# EAGLE library part LSF0108PWR (library circuit_tree)
IC
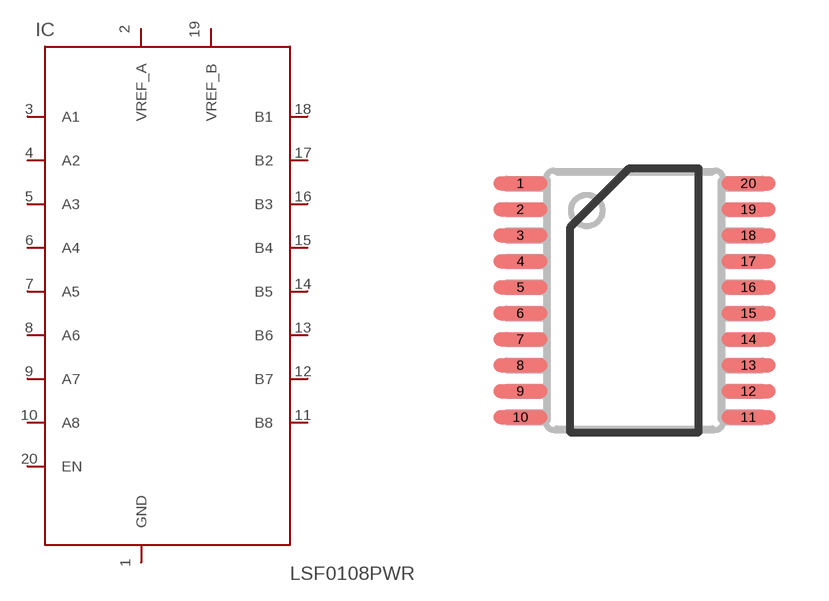
[diagram p6: symbol with the pads of PW0020A; footprint PW0020A]

Designator prefix IC

## LSF0108PWR  [PW0020A]
1  GND  pas
2  VREF_A  pas
3  A1  pas
4  A2  pas
5  A3  pas
6  A4  pas
7  A5  pas
8  A6  pas
9  A7  pas
10  A8  pas
11  B8  pas
12  B7  pas
13  B6  pas
14  B5  pas
15  B4  pas
16  B3  pas
17  B2  pas
18  B1  pas
19  VREF_B  pas
20  EN  pas

## Footprint PW0020A (pad centres in mm)
smd 1.35 x 0.35: 1 -2.85,2.925; 2 -2.85,2.275; 3 -2.85,1.625; 4 -2.85,0.975; 5 -2.85,0.325; 6 -2.85,-0.325; 7 -2.85,-0.975; 8 -2.85,-1.625; 9 -2.85,-2.275; 10 -2.85,-2.925; 11 2.85,-2.925; 12 2.85,-2.275; 13 2.85,-1.625; 14 2.85,-0.975; 15 2.85,-0.325; 16 2.85,0.325; 17 2.85,0.975; 18 2.85,1.625; 19 2.85,2.275; 20 2.85,2.925